# Altium integrated library Maxim Digital Potentiometers.IntLib: 1045 symbols (part 6 of 42)
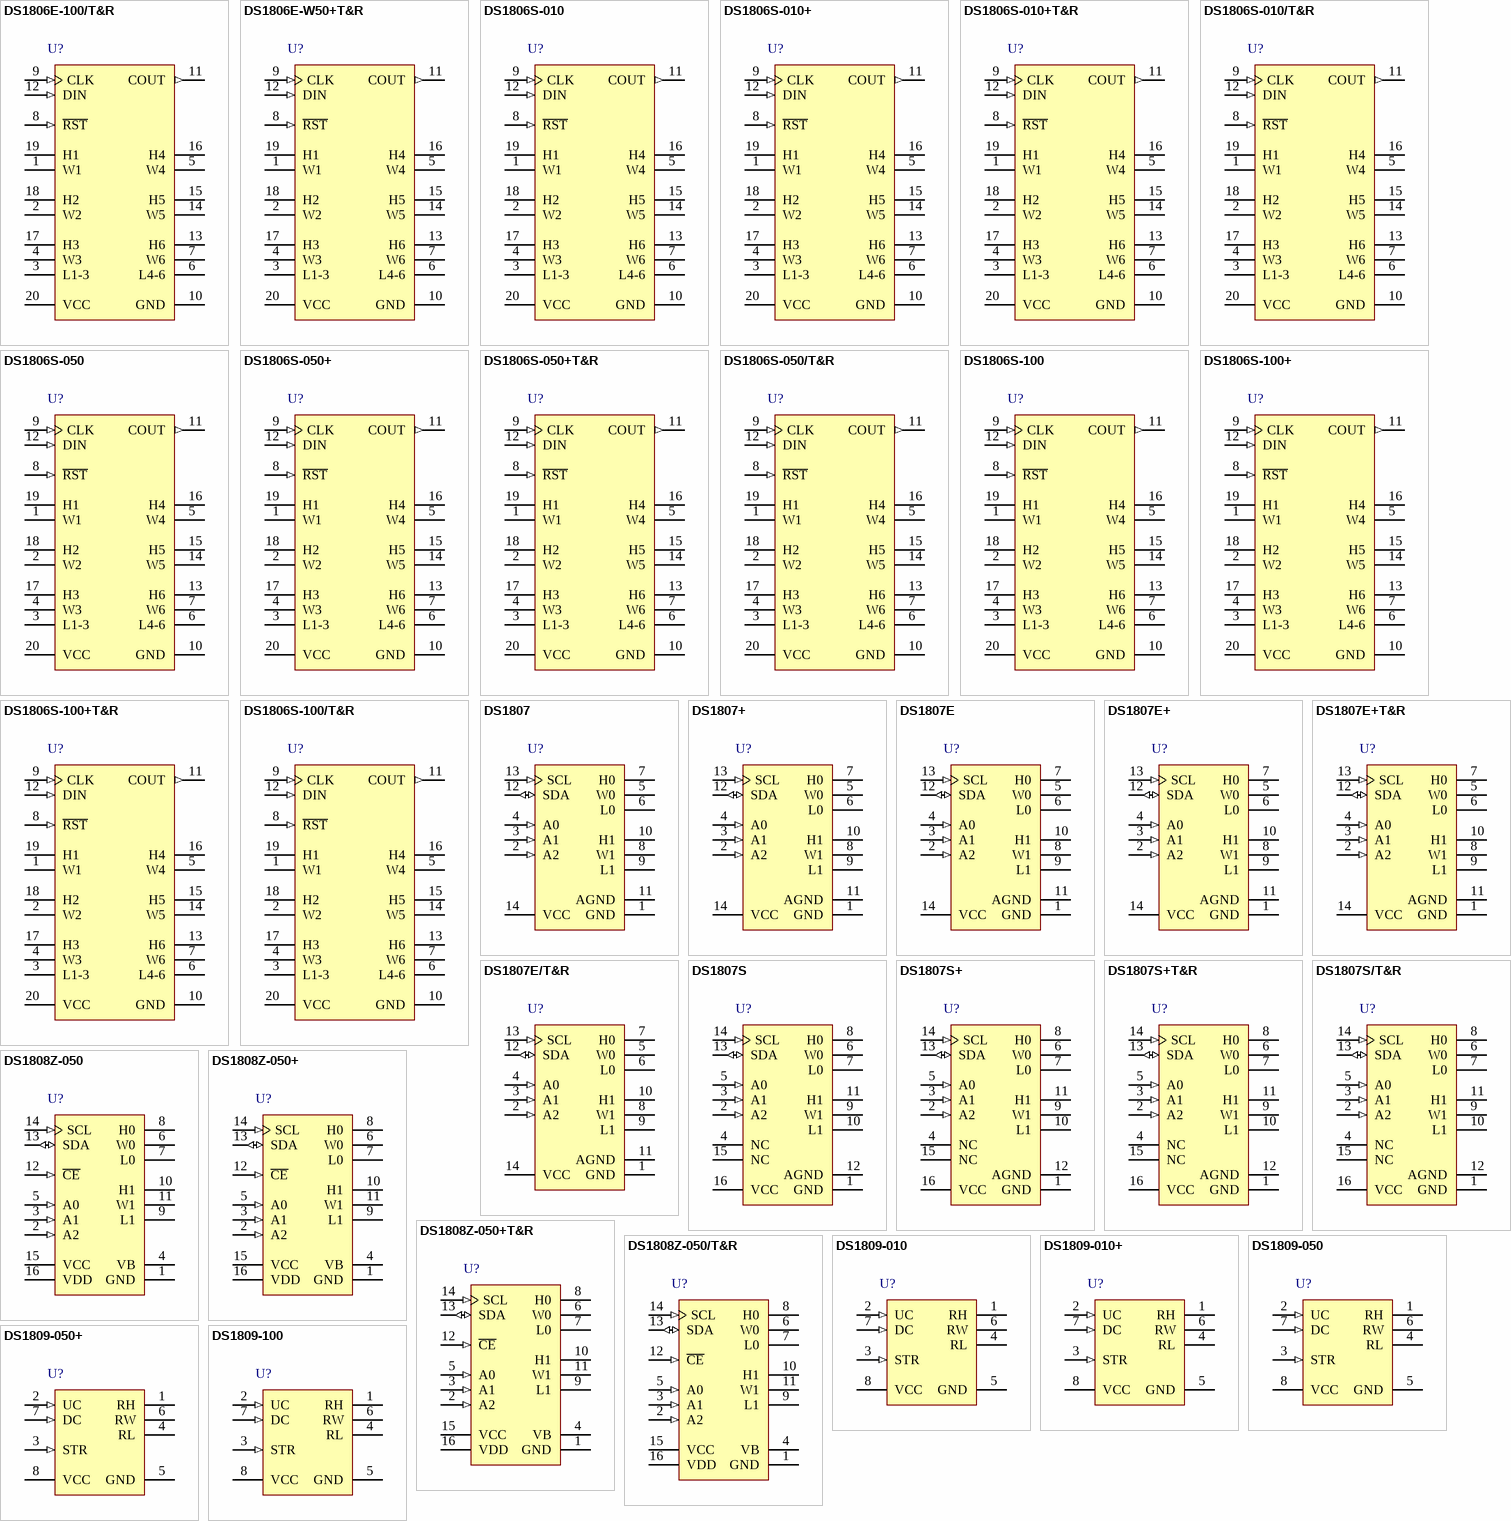
[diagram p34: symbols DS1806E-100/T&R to DS1809-100]

## DS1806S-100+
designator U?
Digital Sextet Potentiometer with 3-Wire Serial Control Interface, Volatile, Linear Taper, 64 Steps, -40 to 85 degC, 20-pin SOIC (W20+3), Pb-Free; PartNumber: DS1806S-100+; DatasheetVersion: Rev. 1; PackageVersion: Rev. F, 10/2012; PackageReference: W20+3; PackageDescription: 20-Pin Small-Outline IC, Wide (0.3in), Body 12.8 x 7.5 mm, Pitch 1.27 mm; Supplier 1: Digi-Key; Supplier Part Number 1: DS1806S-100+-ND; Supplier 2: Mouser; Supplier Part Number 2: 700-DS1806S-100; Control Interface: 3-Wire Serial; Mounting Technology: Surface Mount; Code_JEDEC: MS013; ComponentLink1Description: Manufacturer URL; ComponentLink1URL: http://www.maximintegrated.com/; ComponentLink2Description: Datasheet; ComponentLink2URL: http://datasheets.maximintegrated.com/en/ds/DS1806.pdf; ComponentLink3Description: Package Specification; ComponentLink3URL: http://pdfserv.maximintegrated.com/package_dwgs/21-0042.PDF
footprint MAXM-W20+3_N (SOIC, 20-Leads, Body 12.8x7.5mm, Pitch 1.27mm, IPC Medium Density)
footprint MAXM-W20+3_L (SOIC, 20-Leads, Body 12.8x7.5mm, Pitch 1.27mm, IPC High Density)
footprint MAXM-W20+3_M (SOIC, 20-Leads, Body 12.8x7.5mm, Pitch 1.27mm, IPC Low Density)
pins: 1 W1 "Wiper Terminal of Pot", 2 W2 "Wiper Terminal of Pot", 3 L1-3 "Low Terminal Pots 1 through 3", 4 W3 "Wiper Terminal of Pot", 5 W4 "Wiper Terminal of Pot", 6 L4-6 "Low Terminal Pots 4 through 6", 7 W6 "Wiper Terminal of Pot", 8 ~{RST} (in) "Serial Port Reset Input", 9 CLK (in) "Serial Port Clock Input", 10 GND (power) "Ground", 11 COUT (out) "Cascade Data Output", 12 DIN (in) "Serial Port Data Input", 13 H6 "High End terminal of Pot", 14 W5 "Wiper Terminal of Pot", 15 H5 "High End terminal of Pot", 16 H4 "High End terminal of Pot", 17 H3 "High End terminal of Pot", 18 H2 "High End terminal of Pot", 19 H1 "High End terminal of Pot", 20 VCC (power) "3V or 5V Supply"

## DS1806S-100+T&R
designator U?
Digital Sextet Potentiometer with 3-Wire Serial Control Interface, Volatile, Linear Taper, 64 Steps, -40 to 85 degC, 20-pin SOIC (W20+3), Pb-Free, Tape and Reel; PartNumber: DS1806S-100+T&R; DatasheetVersion: Rev. 1; PackageVersion: Rev. F, 10/2012; PackageReference: W20+3; PackageDescription: 20-Pin Small-Outline IC, Wide (0.3in), Body 12.8 x 7.5 mm, Pitch 1.27 mm; Supplier 1: Digi-Key; Supplier Part Number 1: DS1806S-100+T&R-ND; Supplier 2: Mouser; Supplier Part Number 2: 700-DS1806S-100T&R; Control Interface: 3-Wire Serial; Mounting Technology: Surface Mount; Code_JEDEC: MS013; ComponentLink1Description: Manufacturer URL; ComponentLink1URL: http://www.maximintegrated.com/; ComponentLink2Description: Datasheet; ComponentLink2URL: http://datasheets.maximintegrated.com/en/ds/DS1806.pdf; ComponentLink3Description: Package Specification; ComponentLink3URL: http://pdfserv.maximintegrated.com/package_dwgs/21-0042.PDF
footprint MAXM-W20+3_N (SOIC, 20-Leads, Body 12.8x7.5mm, Pitch 1.27mm, IPC Medium Density)
footprint MAXM-W20+3_L (SOIC, 20-Leads, Body 12.8x7.5mm, Pitch 1.27mm, IPC High Density)
footprint MAXM-W20+3_M (SOIC, 20-Leads, Body 12.8x7.5mm, Pitch 1.27mm, IPC Low Density)
pins: 1 W1 "Wiper Terminal of Pot", 2 W2 "Wiper Terminal of Pot", 3 L1-3 "Low Terminal Pots 1 through 3", 4 W3 "Wiper Terminal of Pot", 5 W4 "Wiper Terminal of Pot", 6 L4-6 "Low Terminal Pots 4 through 6", 7 W6 "Wiper Terminal of Pot", 8 ~{RST} (in) "Serial Port Reset Input", 9 CLK (in) "Serial Port Clock Input", 10 GND (power) "Ground", 11 COUT (out) "Cascade Data Output", 12 DIN (in) "Serial Port Data Input", 13 H6 "High End terminal of Pot", 14 W5 "Wiper Terminal of Pot", 15 H5 "High End terminal of Pot", 16 H4 "High End terminal of Pot", 17 H3 "High End terminal of Pot", 18 H2 "High End terminal of Pot", 19 H1 "High End terminal of Pot", 20 VCC (power) "3V or 5V Supply"

## DS1806S-100/T&R
designator U?
Digital Sextet Potentiometer with 3-Wire Serial Control Interface, Volatile, Linear Taper, 64 Steps, -40 to 85 degC, 20-pin SOIC (W20-3), Tape and Reel; PartNumber: DS1806S-100/T&R; DatasheetVersion: Rev. 1; PackageVersion: Rev. F, 10/2012; PackageReference: W20-3; PackageDescription: 20-Pin Small-Outline IC, Wide (0.3in), Body 12.8 x 7.5 mm, Pitch 1.27 mm; Supplier 1: Digi-Key; Supplier Part Number 1: DS1806S-100/T&R-ND; Supplier 2: Mouser; Supplier Part Number 2: N/A; Control Interface: 3-Wire Serial; Mounting Technology: Surface Mount; Code_JEDEC: MS013; ComponentLink1Description: Manufacturer URL; ComponentLink1URL: http://www.maximintegrated.com/; ComponentLink2Description: Datasheet; ComponentLink2URL: http://datasheets.maximintegrated.com/en/ds/DS1806.pdf; ComponentLink3Description: Package Specification; ComponentLink3URL: http://pdfserv.maximintegrated.com/package_dwgs/21-0042.PDF
footprint MAXM-W20-3_N (SOIC, 20-Leads, Body 12.8x7.5mm, Pitch 1.27mm, IPC Medium Density)
footprint MAXM-W20-3_L (SOIC, 20-Leads, Body 12.8x7.5mm, Pitch 1.27mm, IPC High Density)
footprint MAXM-W20-3_M (SOIC, 20-Leads, Body 12.8x7.5mm, Pitch 1.27mm, IPC Low Density)
pins: 1 W1 "Wiper Terminal of Pot", 2 W2 "Wiper Terminal of Pot", 3 L1-3 "Low Terminal Pots 1 through 3", 4 W3 "Wiper Terminal of Pot", 5 W4 "Wiper Terminal of Pot", 6 L4-6 "Low Terminal Pots 4 through 6", 7 W6 "Wiper Terminal of Pot", 8 ~{RST} (in) "Serial Port Reset Input", 9 CLK (in) "Serial Port Clock Input", 10 GND (power) "Ground", 11 COUT (out) "Cascade Data Output", 12 DIN (in) "Serial Port Data Input", 13 H6 "High End terminal of Pot", 14 W5 "Wiper Terminal of Pot", 15 H5 "High End terminal of Pot", 16 H4 "High End terminal of Pot", 17 H3 "High End terminal of Pot", 18 H2 "High End terminal of Pot", 19 H1 "High End terminal of Pot", 20 VCC (power) "3V or 5V Supply"

## DS1807
designator U?
Dual Audio Taper Potentiometer with 2-Wire Addressable Control Interface, Volatile, Log Taper, 64 Steps, -40 to 85 degC, 14-pin PDIP (P14-3); PartNumber: DS1807; DatasheetVersion: Rev. 1; PackageVersion: Rev. E, 04/2011; PackageReference: P14-3; PackageDescription: 14-Pin Plastic Dual-In-Line, Narrow (0.3in), Body 19.05 x 6.985 mm, Pitch 2.54 mm; Supplier 1: Digi-Key; Supplier Part Number 1: DS1807-ND; Supplier 2: Mouser; Supplier Part Number 2: N/A; Applications: Audio Control, Car Stereo ,Desktop Speakers ,Portable Audio; Control Interface: 2-Wire Addressable; Features: Mute, Ultra Low Power Consumption ,Zero-Crossing Detector; Mounting Technology: Through Hole; Code_JEDEC: MS001-XX; ComponentLink1Description: Manufacturer URL; ComponentLink1URL: http://www.maximintegrated.com/; ComponentLink2Description: Datasheet; ComponentLink2URL: http://datasheets.maximintegrated.com/en/ds/DS1807.pdf; ComponentLink3Description: Package Specification; ComponentLink3URL: http://pdfserv.maximintegrated.com/package_dwgs/21-0043.PDF
footprint MAXM-P14-3 (DIP, 14-Leads, Body 19.05x6.985mm, Pitch 2.54mm)
pins: 1 GND (power) "Ground", 2 A2 (in) "Chip Select Inputs", 3 A1 (in) "Chip Select Inputs", 4 A0 (in) "Chip Select Inputs", 5 W0 "Wiper Terminal of Resistor", 6 L0 "Low End of Resistor", 7 H0 "High End of Resistor", 8 W1 "Wiper Terminal of Resistor", 9 L1 "Low End of Resistor", 10 H1 "High End of Resistor", 11 AGND (power) "Analog Ground", 12 SDA (io) "Serial Data I/O", 13 SCL (in) "Serial Clock Input", 14 VCC (power) "3V/5V Power Supply Input"

## DS1807+
designator U?
Dual Audio Taper Potentiometer with 2-Wire Addressable Control Interface, Volatile, Log Taper, 64 Steps, -40 to 85 degC, 14-pin PDIP (P14+3), Pb-Free; PartNumber: DS1807+; DatasheetVersion: Rev. 1; PackageVersion: Rev. E, 04/2011; PackageReference: P14+3; PackageDescription: 14-Pin Plastic Dual-In-Line, Narrow (0.3in) (P14+3), Body 19.05 x 6.985 mm, Pitch 2.54 mm; Supplier 1: Digi-Key; Supplier Part Number 1: DS1807+-ND; Supplier 2: Mouser; Supplier Part Number 2: 700-DS1807; Applications: Audio Control, Car Stereo ,Desktop Speakers ,Portable Audio; Control Interface: 2-Wire Addressable; Features: Mute, Ultra Low Power Consumption ,Zero-Crossing Detector; Mounting Technology: Through Hole; Code_JEDEC: MS001-XX; ComponentLink1Description: Manufacturer URL; ComponentLink1URL: http://www.maximintegrated.com/; ComponentLink2Description: Datasheet; ComponentLink2URL: http://datasheets.maximintegrated.com/en/ds/DS1807.pdf; ComponentLink3Description: Package Specification; ComponentLink3URL: http://pdfserv.maximintegrated.com/package_dwgs/21-0043.PDF
footprint MAXM-P14+3 (DIP, 14-Leads, Body 19.05x6.985mm, Pitch 2.54mm)
pins: 1 GND (power) "Ground", 2 A2 (in) "Chip Select Inputs", 3 A1 (in) "Chip Select Inputs", 4 A0 (in) "Chip Select Inputs", 5 W0 "Wiper Terminal of Resistor", 6 L0 "Low End of Resistor", 7 H0 "High End of Resistor", 8 W1 "Wiper Terminal of Resistor", 9 L1 "Low End of Resistor", 10 H1 "High End of Resistor", 11 AGND (power) "Analog Ground", 12 SDA (io) "Serial Data I/O", 13 SCL (in) "Serial Clock Input", 14 VCC (power) "3V/5V Power Supply Input"

## DS1807E
designator U?
Dual Audio Taper Potentiometer with 2-Wire Addressable Control Interface, Volatile, Log Taper, 64 Steps, -40 to 85 degC, 14-pin TSSOP (U14-1); PartNumber: DS1807E; DatasheetVersion: Rev. 1; PackageVersion: Rev. L, 07/2010; PackageReference: U14-1; PackageDescription: 14-Pin Thin Shrink Small-Outline Package (U14-1), Body 5 x 4.4 mm, Pitch 0.65 mm; Supplier 1: Digi-Key; Supplier Part Number 1: DS1807E-ND; Supplier 2: Mouser; Supplier Part Number 2: N/A; Applications: Audio Control, Car Stereo ,Desktop Speakers ,Portable Audio; Control Interface: 2-Wire Addressable; Features: Mute, Ultra Low Power Consumption ,Zero-Crossing Detector; Mounting Technology: Surface Mount; Code_JEDEC: MO-153; ComponentLink1Description: Manufacturer URL; ComponentLink1URL: http://www.maximintegrated.com/; ComponentLink2Description: Datasheet; ComponentLink2URL: http://datasheets.maximintegrated.com/en/ds/DS1807.pdf; ComponentLink3Description: Package Specification; ComponentLink3URL: http://pdfserv.maximintegrated.com/package_dwgs/21-0066.PDF
footprint MAXM-U14-1_N (SOP, 14-Leads, Body 5x4.4mm, Pitch 0.65mm, IPC Medium Density)
footprint MAXM-U14-1_L (SOP, 14-Leads, Body 5x4.4mm, Pitch 0.65mm, IPC High Density)
footprint MAXM-U14-1_M (SOP, 14-Leads, Body 5x4.4mm, Pitch 0.65mm, IPC Low Density)
pins: 1 GND (power) "Ground", 2 A2 (in) "Chip Select Inputs", 3 A1 (in) "Chip Select Inputs", 4 A0 (in) "Chip Select Inputs", 5 W0 "Wiper Terminal of Resistor", 6 L0 "Low End of Resistor", 7 H0 "High End of Resistor", 8 W1 "Wiper Terminal of Resistor", 9 L1 "Low End of Resistor", 10 H1 "High End of Resistor", 11 AGND (power) "Analog Ground", 12 SDA (io) "Serial Data I/O", 13 SCL (in) "Serial Clock Input", 14 VCC (power) "3V/5V Power Supply Input"

## DS1807E+
designator U?
Dual Audio Taper Potentiometer with 2-Wire Addressable Control Interface, Volatile, Log Taper, 64 Steps, -40 to 85 degC, 14-pin TSSOP (U14+1), Pb-Free; PartNumber: DS1807E+; DatasheetVersion: Rev. 1; PackageVersion: Rev. L, 07/2010; PackageReference: U14+1; PackageDescription: 14-Pin Thin Shrink Small-Outline Package (U14+1), Body 5 x 4.4 mm, Pitch 0.65 mm; Supplier 1: Digi-Key; Supplier Part Number 1: DS1807E+-ND; Supplier 2: Farnell; Supplier Part Number 2: 2113184; Supplier 3: Newark; Supplier Part Number 3: 95T8621; Supplier 4: Newark; Supplier Part Number 4: 03K9119; Supplier 5: Mouser; Supplier Part Number 5: 700-DS1807E; Applications: Audio Control, Car Stereo ,Desktop Speakers ,Portable Audio; Control Interface: 2-Wire Addressable; Features: Mute, Ultra Low Power Consumption ,Zero-Crossing Detector; Mounting Technology: Surface Mount; Code_JEDEC: MO-153; ComponentLink1Description: Manufacturer URL; ComponentLink1URL: http://www.maximintegrated.com/; ComponentLink2Description: Datasheet; ComponentLink2URL: http://datasheets.maximintegrated.com/en/ds/DS1807.pdf; ComponentLink3Description: Package Specification; ComponentLink3URL: http://pdfserv.maximintegrated.com/package_dwgs/21-0066.PDF
footprint MAXM-U14+1_N (SOP, 14-Leads, Body 5x4.4mm, Pitch 0.65mm, IPC Medium Density)
footprint MAXM-U14+1_L (SOP, 14-Leads, Body 5x4.4mm, Pitch 0.65mm, IPC High Density)
footprint MAXM-U14+1_M (SOP, 14-Leads, Body 5x4.4mm, Pitch 0.65mm, IPC Low Density)
pins: 1 GND (power) "Ground", 2 A2 (in) "Chip Select Inputs", 3 A1 (in) "Chip Select Inputs", 4 A0 (in) "Chip Select Inputs", 5 W0 "Wiper Terminal of Resistor", 6 L0 "Low End of Resistor", 7 H0 "High End of Resistor", 8 W1 "Wiper Terminal of Resistor", 9 L1 "Low End of Resistor", 10 H1 "High End of Resistor", 11 AGND (power) "Analog Ground", 12 SDA (io) "Serial Data I/O", 13 SCL (in) "Serial Clock Input", 14 VCC (power) "3V/5V Power Supply Input"

## DS1807E+T&R
designator U?
Dual Audio Taper Potentiometer with 2-Wire Addressable Control Interface, Volatile, Log Taper, 64 Steps, -40 to 85 degC, 14-pin TSSOP (U14+1), Pb-Free, Tape and Reel; PartNumber: DS1807E+T&R; DatasheetVersion: Rev. 1; PackageVersion: Rev. L, 07/2010; PackageReference: U14+1; PackageDescription: 14-Pin Thin Shrink Small-Outline Package (U14+1), Body 5 x 4.4 mm, Pitch 0.65 mm; Supplier 1: Digi-Key; Supplier Part Number 1: DS1807E+T&R-ND; Supplier 2: Mouser; Supplier Part Number 2: 700-DS1807ET&R; Applications: Audio Control, Car Stereo ,Desktop Speakers ,Portable Audio; Control Interface: 2-Wire Addressable; Features: Mute, Ultra Low Power Consumption ,Zero-Crossing Detector; Mounting Technology: Surface Mount; Code_JEDEC: MO-153; ComponentLink1Description: Manufacturer URL; ComponentLink1URL: http://www.maximintegrated.com/; ComponentLink2Description: Datasheet; ComponentLink2URL: http://datasheets.maximintegrated.com/en/ds/DS1807.pdf; ComponentLink3Description: Package Specification; ComponentLink3URL: http://pdfserv.maximintegrated.com/package_dwgs/21-0066.PDF
footprint MAXM-U14+1_N (SOP, 14-Leads, Body 5x4.4mm, Pitch 0.65mm, IPC Medium Density)
footprint MAXM-U14+1_L (SOP, 14-Leads, Body 5x4.4mm, Pitch 0.65mm, IPC High Density)
footprint MAXM-U14+1_M (SOP, 14-Leads, Body 5x4.4mm, Pitch 0.65mm, IPC Low Density)
pins: 1 GND (power) "Ground", 2 A2 (in) "Chip Select Inputs", 3 A1 (in) "Chip Select Inputs", 4 A0 (in) "Chip Select Inputs", 5 W0 "Wiper Terminal of Resistor", 6 L0 "Low End of Resistor", 7 H0 "High End of Resistor", 8 W1 "Wiper Terminal of Resistor", 9 L1 "Low End of Resistor", 10 H1 "High End of Resistor", 11 AGND (power) "Analog Ground", 12 SDA (io) "Serial Data I/O", 13 SCL (in) "Serial Clock Input", 14 VCC (power) "3V/5V Power Supply Input"

## DS1807E/T&R
designator U?
Dual Audio Taper Potentiometer with 2-Wire Addressable Control Interface, Volatile, Log Taper, 64 Steps, -40 to 85 degC, 14-pin TSSOP (U14-1), Tape and Reel; PartNumber: DS1807E/T&R; DatasheetVersion: Rev. 1; PackageVersion: Rev. L, 07/2010; PackageReference: U14-1; PackageDescription: 14-Pin Thin Shrink Small-Outline Package (U14-1), Body 5 x 4.4 mm, Pitch 0.65 mm; Supplier 1: Mouser; Supplier Part Number 1: N/A; Applications: Audio Control, Car Stereo ,Desktop Speakers ,Portable Audio; Control Interface: 2-Wire Addressable; Features: Mute, Ultra Low Power Consumption ,Zero-Crossing Detector; Mounting Technology: Surface Mount; Code_JEDEC: MO-153; ComponentLink1Description: Manufacturer URL; ComponentLink1URL: http://www.maximintegrated.com/; ComponentLink2Description: Datasheet; ComponentLink2URL: http://datasheets.maximintegrated.com/en/ds/DS1807.pdf; ComponentLink3Description: Package Specification; ComponentLink3URL: http://pdfserv.maximintegrated.com/package_dwgs/21-0066.PDF
footprint MAXM-U14-1_N (SOP, 14-Leads, Body 5x4.4mm, Pitch 0.65mm, IPC Medium Density)
footprint MAXM-U14-1_L (SOP, 14-Leads, Body 5x4.4mm, Pitch 0.65mm, IPC High Density)
footprint MAXM-U14-1_M (SOP, 14-Leads, Body 5x4.4mm, Pitch 0.65mm, IPC Low Density)
pins: 1 GND (power) "Ground", 2 A2 (in) "Chip Select Inputs", 3 A1 (in) "Chip Select Inputs", 4 A0 (in) "Chip Select Inputs", 5 W0 "Wiper Terminal of Resistor", 6 L0 "Low End of Resistor", 7 H0 "High End of Resistor", 8 W1 "Wiper Terminal of Resistor", 9 L1 "Low End of Resistor", 10 H1 "High End of Resistor", 11 AGND (power) "Analog Ground", 12 SDA (io) "Serial Data I/O", 13 SCL (in) "Serial Clock Input", 14 VCC (power) "3V/5V Power Supply Input"

## DS1807S
designator U?
Dual Audio Taper Potentiometer with 2-Wire Addressable Control Interface, Volatile, Log Taper, 64 Steps, -40 to 85 degC, 16-pin SOIC (W16-1); PartNumber: DS1807S; DatasheetVersion: Rev. 1; PackageVersion: Rev. F, 10/2012; PackageReference: W16-1; PackageDescription: 16-Pin Small-Outline IC, Wide (0.3in) (W16-1), Body 10.3 x 7.5 mm, Pitch 1.27 mm; Supplier 1: Digi-Key; Supplier Part Number 1: DS1807S-ND; Supplier 2: Mouser; Supplier Part Number 2: N/A; Applications: Audio Control, Car Stereo ,Desktop Speakers ,Portable Audio; Control Interface: 2-Wire Addressable; Features: Mute, Ultra Low Power Consumption ,Zero-Crossing Detector; Mounting Technology: Surface Mount; Code_JEDEC: MS013; ComponentLink1Description: Manufacturer URL; ComponentLink1URL: http://www.maximintegrated.com/; ComponentLink2Description: Datasheet; ComponentLink2URL: http://datasheets.maximintegrated.com/en/ds/DS1807.pdf; ComponentLink3Description: Package Specification; ComponentLink3URL: http://pdfserv.maximintegrated.com/package_dwgs/21-0042.PDF
footprint MAXM-W16-1_N (SOIC, 16-Leads, Body 10.3x7.5mm, Pitch 1.27mm, IPC Medium Density)
footprint MAXM-W16-1_L (SOIC, 16-Leads, Body 10.3x7.5mm, Pitch 1.27mm, IPC High Density)
footprint MAXM-W16-1_M (SOIC, 16-Leads, Body 10.3x7.5mm, Pitch 1.27mm, IPC Low Density)
pins: 1 GND (power) "Ground", 2 A2 (in) "Chip Select Inputs", 3 A1 (in) "Chip Select Inputs", 4 NC "No connection", 5 A0 (in) "Chip Select Inputs", 6 W0 "Wiper Terminal of Resistor", 7 L0 "Low End of Resistor", 8 H0 "High End of Resistor", 9 W1 "Wiper Terminal of Resistor", 10 L1 "Low End of Resistor", 11 H1 "High End of Resistor", 12 AGND (power) "Analog Ground", 13 SDA (io) "Serial Data I/O", 14 SCL (in) "Serial Clock Input", 15 NC "No connection", 16 VCC (power) "3V/5V Power Supply Input"

## DS1807S+
designator U?
Dual Audio Taper Potentiometer with 2-Wire Addressable Control Interface, Volatile, Log Taper, 64 Steps, -40 to 85 degC, 16-pin SOIC (W16+1), Pb-Free; PartNumber: DS1807S+; DatasheetVersion: Rev. 1; PackageVersion: Rev. F, 10/2012; PackageReference: W16+1; PackageDescription: 16-Pin Small-Outline IC, Wide (0.3in) (W16+1), Body 10.3 x 7.5 mm, Pitch 1.27 mm; Supplier 1: Digi-Key; Supplier Part Number 1: DS1807S+-ND; Supplier 2: Mouser; Supplier Part Number 2: 700-DS1807S; Applications: Audio Control, Car Stereo ,Desktop Speakers ,Portable Audio; Control Interface: 2-Wire Addressable; Features: Mute, Ultra Low Power Consumption ,Zero-Crossing Detector; Mounting Technology: Surface Mount; Code_JEDEC: MS013; ComponentLink1Description: Manufacturer URL; ComponentLink1URL: http://www.maximintegrated.com/; ComponentLink2Description: Datasheet; ComponentLink2URL: http://datasheets.maximintegrated.com/en/ds/DS1807.pdf; ComponentLink3Description: Package Specification; ComponentLink3URL: http://pdfserv.maximintegrated.com/package_dwgs/21-0042.PDF
footprint MAXM-W16+1_N (SOIC, 16-Leads, Body 10.3x7.5mm, Pitch 1.27mm, IPC Medium Density)
footprint MAXM-W16+1_L (SOIC, 16-Leads, Body 10.3x7.5mm, Pitch 1.27mm, IPC High Density)
footprint MAXM-W16+1_M (SOIC, 16-Leads, Body 10.3x7.5mm, Pitch 1.27mm, IPC Low Density)
pins: 1 GND (power) "Ground", 2 A2 (in) "Chip Select Inputs", 3 A1 (in) "Chip Select Inputs", 4 NC "No connection", 5 A0 (in) "Chip Select Inputs", 6 W0 "Wiper Terminal of Resistor", 7 L0 "Low End of Resistor", 8 H0 "High End of Resistor", 9 W1 "Wiper Terminal of Resistor", 10 L1 "Low End of Resistor", 11 H1 "High End of Resistor", 12 AGND (power) "Analog Ground", 13 SDA (io) "Serial Data I/O", 14 SCL (in) "Serial Clock Input", 15 NC "No connection", 16 VCC (power) "3V/5V Power Supply Input"

## DS1807S+T&R
designator U?
Dual Audio Taper Potentiometer with 2-Wire Addressable Control Interface, Volatile, Log Taper, 64 Steps, -40 to 85 degC, 16-pin SOIC (W16+1), Pb-Free, Tape and Reel; PartNumber: DS1807S+T&R; DatasheetVersion: Rev. 1; PackageVersion: Rev. F, 10/2012; PackageReference: W16+1; PackageDescription: 16-Pin Small-Outline IC, Wide (0.3in) (W16+1), Body 10.3 x 7.5 mm, Pitch 1.27 mm; Supplier 1: Digi-Key; Supplier Part Number 1: DS1807S+T&R-ND; Supplier 2: Mouser; Supplier Part Number 2: 700-DS1807ST&R; Applications: Audio Control, Car Stereo ,Desktop Speakers ,Portable Audio; Control Interface: 2-Wire Addressable; Features: Mute, Ultra Low Power Consumption ,Zero-Crossing Detector; Mounting Technology: Surface Mount; Code_JEDEC: MS013; ComponentLink1Description: Manufacturer URL; ComponentLink1URL: http://www.maximintegrated.com/; ComponentLink2Description: Datasheet; ComponentLink2URL: http://datasheets.maximintegrated.com/en/ds/DS1807.pdf; ComponentLink3Description: Package Specification; ComponentLink3URL: http://pdfserv.maximintegrated.com/package_dwgs/21-0042.PDF
footprint MAXM-W16+1_N (SOIC, 16-Leads, Body 10.3x7.5mm, Pitch 1.27mm, IPC Medium Density)
footprint MAXM-W16+1_L (SOIC, 16-Leads, Body 10.3x7.5mm, Pitch 1.27mm, IPC High Density)
footprint MAXM-W16+1_M (SOIC, 16-Leads, Body 10.3x7.5mm, Pitch 1.27mm, IPC Low Density)
pins: 1 GND (power) "Ground", 2 A2 (in) "Chip Select Inputs", 3 A1 (in) "Chip Select Inputs", 4 NC "No connection", 5 A0 (in) "Chip Select Inputs", 6 W0 "Wiper Terminal of Resistor", 7 L0 "Low End of Resistor", 8 H0 "High End of Resistor", 9 W1 "Wiper Terminal of Resistor", 10 L1 "Low End of Resistor", 11 H1 "High End of Resistor", 12 AGND (power) "Analog Ground", 13 SDA (io) "Serial Data I/O", 14 SCL (in) "Serial Clock Input", 15 NC "No connection", 16 VCC (power) "3V/5V Power Supply Input"

## DS1807S/T&R
designator U?
Dual Audio Taper Potentiometer with 2-Wire Addressable Control Interface, Volatile, Log Taper, 64 Steps, -40 to 85 degC, 16-pin SOIC (W16-1), Tape and Reel; PartNumber: DS1807S/T&R; DatasheetVersion: Rev. 1; PackageVersion: Rev. F, 10/2012; PackageReference: W16-1; PackageDescription: 16-Pin Small-Outline IC, Wide (0.3in) (W16-1), Body 10.3 x 7.5 mm, Pitch 1.27 mm; Supplier 1: Digi-Key; Supplier Part Number 1: DS1807S/T&R-ND; Supplier 2: Mouser; Supplier Part Number 2: N/A; Applications: Audio Control, Car Stereo ,Desktop Speakers ,Portable Audio; Control Interface: 2-Wire Addressable; Features: Mute, Ultra Low Power Consumption ,Zero-Crossing Detector; Mounting Technology: Surface Mount; Code_JEDEC: MS013; ComponentLink1Description: Manufacturer URL; ComponentLink1URL: http://www.maximintegrated.com/; ComponentLink2Description: Datasheet; ComponentLink2URL: http://datasheets.maximintegrated.com/en/ds/DS1807.pdf; ComponentLink3Description: Package Specification; ComponentLink3URL: http://pdfserv.maximintegrated.com/package_dwgs/21-0042.PDF
footprint MAXM-W16-1_N (SOIC, 16-Leads, Body 10.3x7.5mm, Pitch 1.27mm, IPC Medium Density)
footprint MAXM-W16-1_L (SOIC, 16-Leads, Body 10.3x7.5mm, Pitch 1.27mm, IPC High Density)
footprint MAXM-W16-1_M (SOIC, 16-Leads, Body 10.3x7.5mm, Pitch 1.27mm, IPC Low Density)
pins: 1 GND (power) "Ground", 2 A2 (in) "Chip Select Inputs", 3 A1 (in) "Chip Select Inputs", 4 NC "No connection", 5 A0 (in) "Chip Select Inputs", 6 W0 "Wiper Terminal of Resistor", 7 L0 "Low End of Resistor", 8 H0 "High End of Resistor", 9 W1 "Wiper Terminal of Resistor", 10 L1 "Low End of Resistor", 11 H1 "High End of Resistor", 12 AGND (power) "Analog Ground", 13 SDA (io) "Serial Data I/O", 14 SCL (in) "Serial Clock Input", 15 NC "No connection", 16 VCC (power) "3V/5V Power Supply Input"

## DS1808Z-050
designator U?
Dual High Voltage Bipolar Audio Potentiometer with 2-Wire Addressable Control Interface, Volatile, Log Taper, 32 Steps, -40 to 85 degC, 16-pin SOIC (S16-5); PartNumber: DS1808Z-050; DatasheetVersion: Rev. 1; PackageVersion: Rev. D, 10/2012; PackageReference: S16-5; PackageDescription: 16-Pin Small-Outline IC, Narrow (0.15in) (S16-5), Body 9.9 x 3.9 mm, Pitch 1.27 mm; Supplier 1: Digi-Key; Supplier Part Number 1: DS1808Z-050-ND; Supplier 2: Mouser; Supplier Part Number 2: N/A; Control Interface: 2-Wire Addressable; Features: +/-12V Audio Taper, High Voltage Bipolar Compatibility ,Mute; Mounting Technology: Surface Mount; Code_JEDEC: MS012; ComponentLink1Description: Manufacturer URL; ComponentLink1URL: http://www.maximintegrated.com/; ComponentLink2Description: Datasheet; ComponentLink2URL: http://datasheets.maximintegrated.com/en/ds/DS1808.pdf; ComponentLink3Description: Package Specification; ComponentLink3URL: http://pdfserv.maximintegrated.com/package_dwgs/21-0041.PDF
footprint MAXM-S16-5_N (SOIC, 16-Leads, Body 9.9x3.9mm, Pitch 1.27mm, IPC Medium Density)
footprint MAXM-S16-5_L (SOIC, 16-Leads, Body 9.9x3.9mm, Pitch 1.27mm, IPC High Density)
footprint MAXM-S16-5_M (SOIC, 16-Leads, Body 9.9x3.9mm, Pitch 1.27mm, IPC Low Density)
pins: 1 GND (power) "Ground", 2 A2 (in) "Address Pin", 3 A1 (in) "Address Pin", 4 VB (power) "-12V Supply (substrate bias)", 5 A0 (in) "Address Pin", 6 W0 "Wiper Terminals", 7 L0 "Low-end Terminals", 8 H0 "High-end Terminals", 9 L1 "Low-end Terminals", 10 H1 "High-end Terminals", 11 W1 "Wiper Terminals", 12 ~{CE} (in) "2-Wire Interface Enable", 13 SDA (io) "2-Wire Serial Data Input/Output", 14 SCL (in) "2-Wire Clock Input", 15 VCC (power) "+12V Supply", 16 VDD (power) "5V Digital Supply"

## DS1808Z-050+
designator U?
Dual High Voltage Bipolar Audio Potentiometer with 2-Wire Addressable Control Interface, Volatile, Log Taper, 32 Steps, -40 to 85 degC, 16-pin SOIC (S16+5), Pb-Free; PartNumber: DS1808Z-050+; DatasheetVersion: Rev. 1; PackageVersion: Rev. D, 10/2012; PackageReference: S16+5; PackageDescription: 16-Pin Small-Outline IC, Narrow (0.15in) (S16+5), Body 9.9 x 3.9 mm, Pitch 1.27 mm; Supplier 1: Digi-Key; Supplier Part Number 1: DS1808Z-050+-ND; Supplier 2: Farnell; Supplier Part Number 2: 1379825; Supplier 3: Mouser; Supplier Part Number 3: 700-DS1808Z-050; Control Interface: 2-Wire Addressable; Features: +/-12V Audio Taper, High Voltage Bipolar Compatibility ,Mute; Mounting Technology: Surface Mount; Code_JEDEC: MS012; ComponentLink1Description: Manufacturer URL; ComponentLink1URL: http://www.maximintegrated.com/; ComponentLink2Description: Datasheet; ComponentLink2URL: http://datasheets.maximintegrated.com/en/ds/DS1808.pdf; ComponentLink3Description: Package Specification; ComponentLink3URL: http://pdfserv.maximintegrated.com/package_dwgs/21-0041.PDF
footprint MAXM-S16+5_N (SOIC, 16-Leads, Body 9.9x3.9mm, Pitch 1.27mm, IPC Medium Density)
footprint MAXM-S16+5_L (SOIC, 16-Leads, Body 9.9x3.9mm, Pitch 1.27mm, IPC High Density)
footprint MAXM-S16+5_M (SOIC, 16-Leads, Body 9.9x3.9mm, Pitch 1.27mm, IPC Low Density)
pins: 1 GND (power) "Ground", 2 A2 (in) "Address Pin", 3 A1 (in) "Address Pin", 4 VB (power) "-12V Supply (substrate bias)", 5 A0 (in) "Address Pin", 6 W0 "Wiper Terminals", 7 L0 "Low-end Terminals", 8 H0 "High-end Terminals", 9 L1 "Low-end Terminals", 10 H1 "High-end Terminals", 11 W1 "Wiper Terminals", 12 ~{CE} (in) "2-Wire Interface Enable", 13 SDA (io) "2-Wire Serial Data Input/Output", 14 SCL (in) "2-Wire Clock Input", 15 VCC (power) "+12V Supply", 16 VDD (power) "5V Digital Supply"

## DS1808Z-050+T&R
designator U?
Dual High Voltage Bipolar Audio Potentiometer with 2-Wire Addressable Control Interface, Volatile, Log Taper, 32 Steps, -40 to 85 degC, 16-pin SOIC (S16+5), Pb-Free, Tape and Reel; PartNumber: DS1808Z-050+T&R; DatasheetVersion: Rev. 1; PackageVersion: Rev. D, 10/2012; PackageReference: S16+5; PackageDescription: 16-Pin Small-Outline IC, Narrow (0.15in) (S16+5), Body 9.9 x 3.9 mm, Pitch 1.27 mm; Supplier 1: Digi-Key; Supplier Part Number 1: DS1808Z-050+T&R-ND; Supplier 2: Mouser; Supplier Part Number 2: 700-DS1808Z-050T&R; Control Interface: 2-Wire Addressable; Features: +/-12V Audio Taper, High Voltage Bipolar Compatibility ,Mute; Mounting Technology: Surface Mount; Code_JEDEC: MS012; ComponentLink1Description: Manufacturer URL; ComponentLink1URL: http://www.maximintegrated.com/; ComponentLink2Description: Datasheet; ComponentLink2URL: http://datasheets.maximintegrated.com/en/ds/DS1808.pdf; ComponentLink3Description: Package Specification; ComponentLink3URL: http://pdfserv.maximintegrated.com/package_dwgs/21-0041.PDF
footprint MAXM-S16+5_N (SOIC, 16-Leads, Body 9.9x3.9mm, Pitch 1.27mm, IPC Medium Density)
footprint MAXM-S16+5_L (SOIC, 16-Leads, Body 9.9x3.9mm, Pitch 1.27mm, IPC High Density)
footprint MAXM-S16+5_M (SOIC, 16-Leads, Body 9.9x3.9mm, Pitch 1.27mm, IPC Low Density)
pins: 1 GND (power) "Ground", 2 A2 (in) "Address Pin", 3 A1 (in) "Address Pin", 4 VB (power) "-12V Supply (substrate bias)", 5 A0 (in) "Address Pin", 6 W0 "Wiper Terminals", 7 L0 "Low-end Terminals", 8 H0 "High-end Terminals", 9 L1 "Low-end Terminals", 10 H1 "High-end Terminals", 11 W1 "Wiper Terminals", 12 ~{CE} (in) "2-Wire Interface Enable", 13 SDA (io) "2-Wire Serial Data Input/Output", 14 SCL (in) "2-Wire Clock Input", 15 VCC (power) "+12V Supply", 16 VDD (power) "5V Digital Supply"

## DS1808Z-050/T&R
designator U?
Dual High Voltage Bipolar Audio Potentiometer with 2-Wire Addressable Control Interface, Volatile, Log Taper, 32 Steps, -40 to 85 degC, 16-pin SOIC (S16-5), Tape and Reel; PartNumber: DS1808Z-050/T&R; DatasheetVersion: Rev. 1; PackageVersion: Rev. D, 10/2012; PackageReference: S16-5; PackageDescription: 16-Pin Small-Outline IC, Narrow (0.15in) (S16-5), Body 9.9 x 3.9 mm, Pitch 1.27 mm; Supplier 1: Digi-Key; Supplier Part Number 1: DS1808Z-050/T&R-ND; Supplier 2: Mouser; Supplier Part Number 2: N/A; Control Interface: 2-Wire Addressable; Features: +/-12V Audio Taper, High Voltage Bipolar Compatibility ,Mute; Mounting Technology: Surface Mount; Code_JEDEC: MS012; ComponentLink1Description: Manufacturer URL; ComponentLink1URL: http://www.maximintegrated.com/; ComponentLink2Description: Datasheet; ComponentLink2URL: http://datasheets.maximintegrated.com/en/ds/DS1808.pdf; ComponentLink3Description: Package Specification; ComponentLink3URL: http://pdfserv.maximintegrated.com/package_dwgs/21-0041.PDF
footprint MAXM-S16-5_N (SOIC, 16-Leads, Body 9.9x3.9mm, Pitch 1.27mm, IPC Medium Density)
footprint MAXM-S16-5_L (SOIC, 16-Leads, Body 9.9x3.9mm, Pitch 1.27mm, IPC High Density)
footprint MAXM-S16-5_M (SOIC, 16-Leads, Body 9.9x3.9mm, Pitch 1.27mm, IPC Low Density)
pins: 1 GND (power) "Ground", 2 A2 (in) "Address Pin", 3 A1 (in) "Address Pin", 4 VB (power) "-12V Supply (substrate bias)", 5 A0 (in) "Address Pin", 6 W0 "Wiper Terminals", 7 L0 "Low-end Terminals", 8 H0 "High-end Terminals", 9 L1 "Low-end Terminals", 10 H1 "High-end Terminals", 11 W1 "Wiper Terminals", 12 ~{CE} (in) "2-Wire Interface Enable", 13 SDA (io) "2-Wire Serial Data Input/Output", 14 SCL (in) "2-Wire Clock Input", 15 VCC (power) "+12V Supply", 16 VDD (power) "5V Digital Supply"

## DS1809-010
designator U?
Dallastat with Contact-Closure Control Interface, Non-Volatile, Linear Taper, 64 Steps, -40 to 85 degC, 8-pin PDIP (P8-1); PartNumber: DS1809-010; DatasheetVersion: Rev. 1; PackageVersion: Rev. E, 04/2011; PackageReference: P8-1; PackageDescription: 8-Pin Plastic Dual-In-Line, Narrow (0.3in) (P8-1), Body 9.375 x 6.985 mm, Pitch 2.54 mm; Supplier 1: Digi-Key; Supplier Part Number 1: DS1809-010-ND; Supplier 2: Mouser; Supplier Part Number 2: N/A; Control Interface: Contact-Closure; Features: EEPROM Wiper Memory; Mounting Technology: Through Hole; Code_JEDEC: MS001-XX; ComponentLink1Description: Manufacturer URL; ComponentLink1URL: http://www.maximintegrated.com/; ComponentLink2Description: Datasheet; ComponentLink2URL: http://datasheets.maximintegrated.com/en/ds/DS1809.pdf; ComponentLink3Description: Package Specification; ComponentLink3URL: http://pdfserv.maximintegrated.com/package_dwgs/21-0043.PDF
footprint MAXM-P8-1 (DIP, 8-Leads, Body 9.375x6.985mm, Pitch 2.54mm)
pins: 1 RH "High End of Resistor", 2 UC (in) "Up Control Input", 3 STR (in) "Storage Enable Input", 4 RL "Low End of Resistor", 5 GND (power) "Ground", 6 RW "Wiper Terminal", 7 DC (in) "Down Control Input", 8 VCC (power) "Supply Voltage"

## DS1809-010+
designator U?
Dallastat with Contact-Closure Control Interface, Non-Volatile, Linear Taper, 64 Steps, -40 to 85 degC, 8-pin PDIP (P8+1), Pb-Free; PartNumber: DS1809-010+; DatasheetVersion: Rev. 1; PackageVersion: Rev. E, 04/2011; PackageReference: P8+1; PackageDescription: 8-Pin Plastic Dual-In-Line, Narrow (0.3in) (P8+1), Body 9.375 x 6.985 mm, Pitch 2.54 mm; Supplier 1: Digi-Key; Supplier Part Number 1: DS1809-010+-ND; Supplier 2: Mouser; Supplier Part Number 2: 700-DS1809-010; Control Interface: Contact-Closure; Features: EEPROM Wiper Memory; Mounting Technology: Through Hole; Code_JEDEC: MS001-XX; ComponentLink1Description: Manufacturer URL; ComponentLink1URL: http://www.maximintegrated.com/; ComponentLink2Description: Datasheet; ComponentLink2URL: http://datasheets.maximintegrated.com/en/ds/DS1809.pdf; ComponentLink3Description: Package Specification; ComponentLink3URL: http://pdfserv.maximintegrated.com/package_dwgs/21-0043.PDF
footprint MAXM-P8+1 (DIP, 8-Leads, Body 9.375x6.985mm, Pitch 2.54mm)
pins: 1 RH "High End of Resistor", 2 UC (in) "Up Control Input", 3 STR (in) "Storage Enable Input", 4 RL "Low End of Resistor", 5 GND (power) "Ground", 6 RW "Wiper Terminal", 7 DC (in) "Down Control Input", 8 VCC (power) "Supply Voltage"

## DS1809-050
designator U?
Dallastat with Contact-Closure Control Interface, Non-Volatile, Linear Taper, 64 Steps, -40 to 85 degC, 8-pin PDIP (P8-1); PartNumber: DS1809-050; DatasheetVersion: Rev. 1; PackageVersion: Rev. E, 04/2011; PackageReference: P8-1; PackageDescription: 8-Pin Plastic Dual-In-Line, Narrow (0.3in) (P8-1), Body 9.375 x 6.985 mm, Pitch 2.54 mm; Supplier 1: Digi-Key; Supplier Part Number 1: DS1809-050-ND; Supplier 2: Mouser; Supplier Part Number 2: N/A; Control Interface: Contact-Closure; Features: EEPROM Wiper Memory; Mounting Technology: Through Hole; Code_JEDEC: MS001-XX; ComponentLink1Description: Manufacturer URL; ComponentLink1URL: http://www.maximintegrated.com/; ComponentLink2Description: Datasheet; ComponentLink2URL: http://datasheets.maximintegrated.com/en/ds/DS1809.pdf; ComponentLink3Description: Package Specification; ComponentLink3URL: http://pdfserv.maximintegrated.com/package_dwgs/21-0043.PDF
footprint MAXM-P8-1 (DIP, 8-Leads, Body 9.375x6.985mm, Pitch 2.54mm)
pins: 1 RH "High End of Resistor", 2 UC (in) "Up Control Input", 3 STR (in) "Storage Enable Input", 4 RL "Low End of Resistor", 5 GND (power) "Ground", 6 RW "Wiper Terminal", 7 DC (in) "Down Control Input", 8 VCC (power) "Supply Voltage"

## DS1809-050+
designator U?
Dallastat with Contact-Closure Control Interface, Non-Volatile, Linear Taper, 64 Steps, -40 to 85 degC, 8-pin PDIP (P8+1), Pb-Free; PartNumber: DS1809-050+; DatasheetVersion: Rev. 1; PackageVersion: Rev. E, 04/2011; PackageReference: P8+1; PackageDescription: 8-Pin Plastic Dual-In-Line, Narrow (0.3in) (P8+1), Body 9.375 x 6.985 mm, Pitch 2.54 mm; Supplier 1: Digi-Key; Supplier Part Number 1: DS1809-050+-ND; Supplier 2: Mouser; Supplier Part Number 2: 700-DS1809-050; Control Interface: Contact-Closure; Features: EEPROM Wiper Memory; Mounting Technology: Through Hole; Code_JEDEC: MS001-XX; ComponentLink1Description: Manufacturer URL; ComponentLink1URL: http://www.maximintegrated.com/; ComponentLink2Description: Datasheet; ComponentLink2URL: http://datasheets.maximintegrated.com/en/ds/DS1809.pdf; ComponentLink3Description: Package Specification; ComponentLink3URL: http://pdfserv.maximintegrated.com/package_dwgs/21-0043.PDF
footprint MAXM-P8+1 (DIP, 8-Leads, Body 9.375x6.985mm, Pitch 2.54mm)
pins: 1 RH "High End of Resistor", 2 UC (in) "Up Control Input", 3 STR (in) "Storage Enable Input", 4 RL "Low End of Resistor", 5 GND (power) "Ground", 6 RW "Wiper Terminal", 7 DC (in) "Down Control Input", 8 VCC (power) "Supply Voltage"

## DS1809-100
designator U?
Dallastat with Contact-Closure Control Interface, Non-Volatile, Linear Taper, 64 Steps, -40 to 85 degC, 8-pin PDIP (P8-1); PartNumber: DS1809-100; DatasheetVersion: Rev. 1; PackageVersion: Rev. E, 04/2011; PackageReference: P8-1; PackageDescription: 8-Pin Plastic Dual-In-Line, Narrow (0.3in) (P8-1), Body 9.375 x 6.985 mm, Pitch 2.54 mm; Supplier 1: Digi-Key; Supplier Part Number 1: DS1809-100-ND; Supplier 2: Mouser; Supplier Part Number 2: N/A; Control Interface: Contact-Closure; Features: EEPROM Wiper Memory; Mounting Technology: Through Hole; Code_JEDEC: MS001-XX; ComponentLink1Description: Manufacturer URL; ComponentLink1URL: http://www.maximintegrated.com/; ComponentLink2Description: Datasheet; ComponentLink2URL: http://datasheets.maximintegrated.com/en/ds/DS1809.pdf; ComponentLink3Description: Package Specification; ComponentLink3URL: http://pdfserv.maximintegrated.com/package_dwgs/21-0043.PDF
footprint MAXM-P8-1 (DIP, 8-Leads, Body 9.375x6.985mm, Pitch 2.54mm)
pins: 1 RH "High End of Resistor", 2 UC (in) "Up Control Input", 3 STR (in) "Storage Enable Input", 4 RL "Low End of Resistor", 5 GND (power) "Ground", 6 RW "Wiper Terminal", 7 DC (in) "Down Control Input", 8 VCC (power) "Supply Voltage"

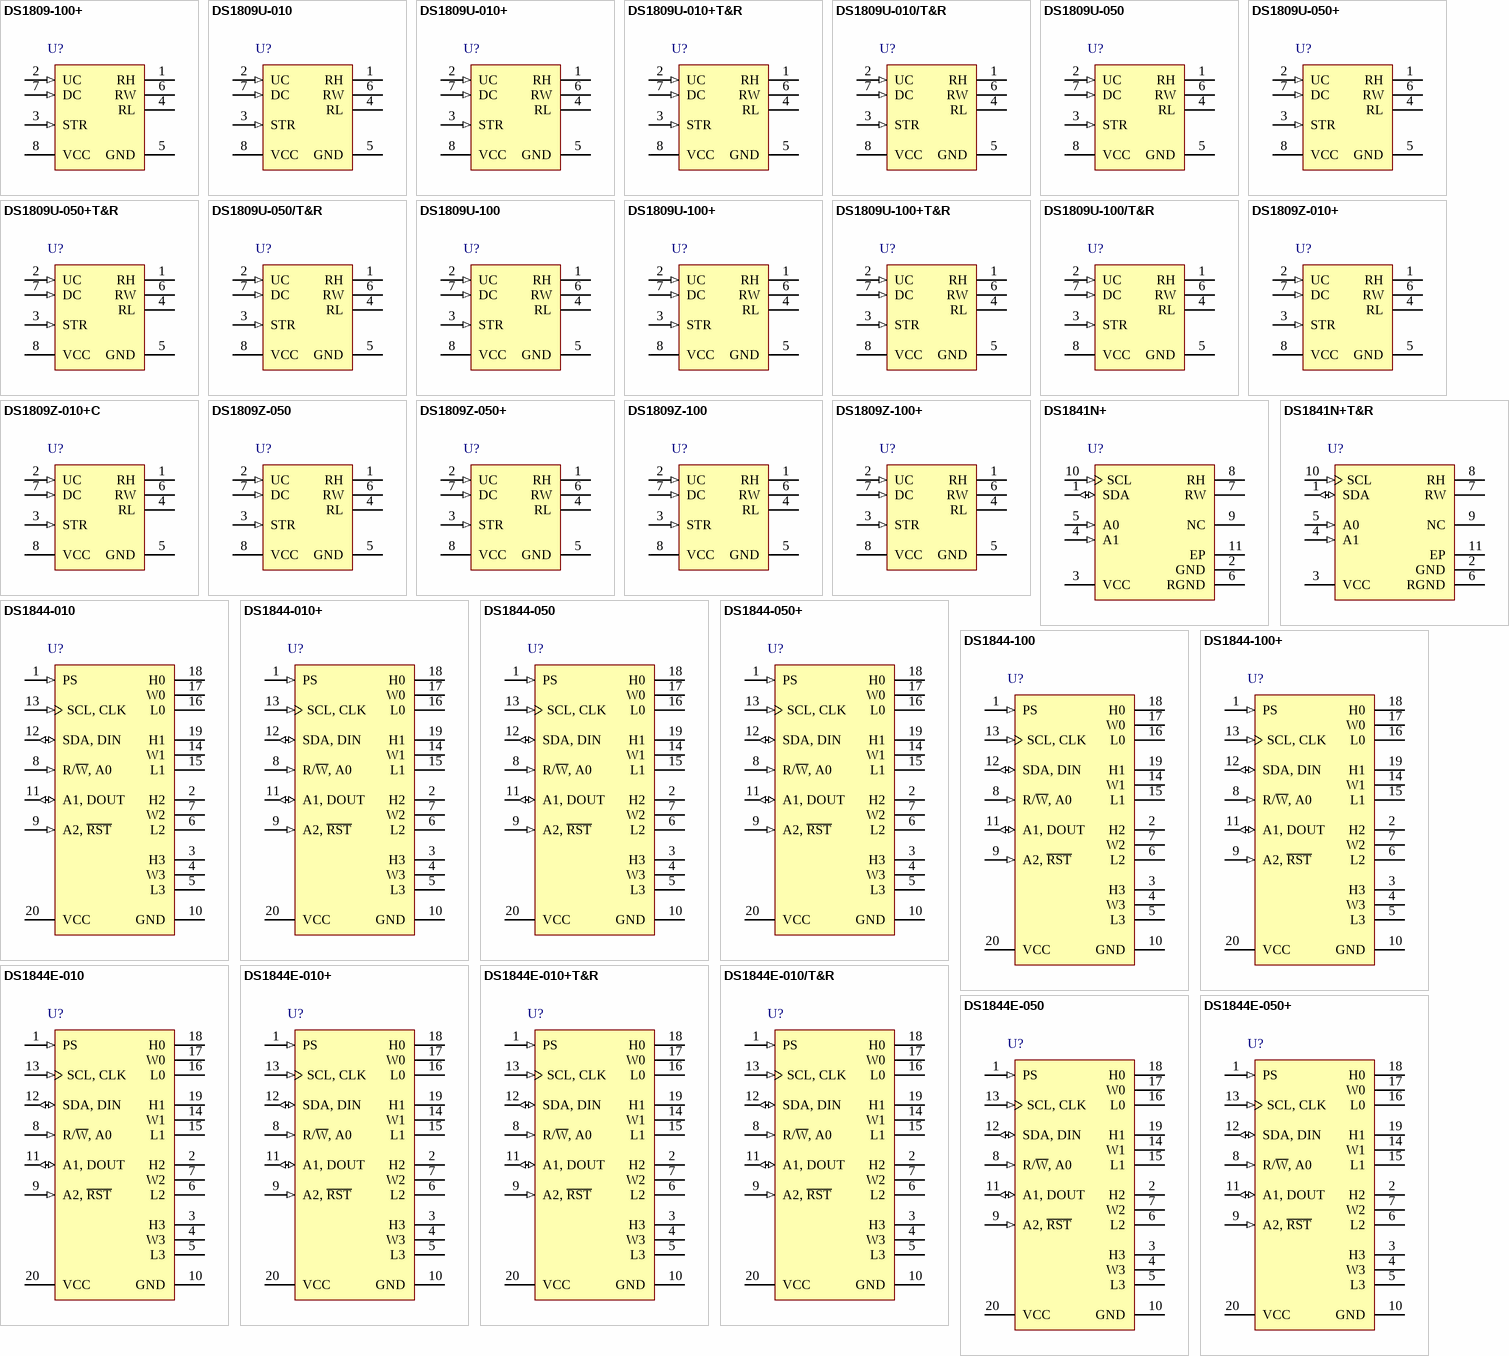
[diagram p5: symbols DS1809-100+ to DS1844E-050+]

## DS1809-100+
designator U?
Dallastat with Contact-Closure Control Interface, Non-Volatile, Linear Taper, 64 Steps, -40 to 85 degC, 8-pin PDIP (P8+1), Pb-Free; PartNumber: DS1809-100+; DatasheetVersion: Rev. 1; PackageVersion: Rev. E, 04/2011; PackageReference: P8+1; PackageDescription: 8-Pin Plastic Dual-In-Line, Narrow (0.3in) (P8+1), Body 9.375 x 6.985 mm, Pitch 2.54 mm; Supplier 1: Digi-Key; Supplier Part Number 1: DS1809-100+-ND; Supplier 2: Mouser; Supplier Part Number 2: 700-DS1809-100; Control Interface: Contact-Closure; Features: EEPROM Wiper Memory; Mounting Technology: Through Hole; Code_JEDEC: MS001-XX; ComponentLink1Description: Manufacturer URL; ComponentLink1URL: http://www.maximintegrated.com/; ComponentLink2Description: Datasheet; ComponentLink2URL: http://datasheets.maximintegrated.com/en/ds/DS1809.pdf; ComponentLink3Description: Package Specification; ComponentLink3URL: http://pdfserv.maximintegrated.com/package_dwgs/21-0043.PDF
footprint MAXM-P8+1 (DIP, 8-Leads, Body 9.375x6.985mm, Pitch 2.54mm)
pins: 1 RH "High End of Resistor", 2 UC (in) "Up Control Input", 3 STR (in) "Storage Enable Input", 4 RL "Low End of Resistor", 5 GND (power) "Ground", 6 RW "Wiper Terminal", 7 DC (in) "Down Control Input", 8 VCC (power) "Supply Voltage"

## DS1809U-010
designator U?
Dallastat with Contact-Closure Control Interface, Non-Volatile, Linear Taper, 64 Steps, -40 to 85 degC, 8-pin uMAX (U8-1); PartNumber: DS1809U-010; DatasheetVersion: Rev. 1; PackageVersion: Rev. L, 08/2009; PackageReference: U8-1; PackageDescription: 8-Pin Micro-MAX, Thin Shrink Small-Outline (U8-1), Body 3 x 3 mm, Pitch 0.65mm; Supplier 1: Digi-Key; Supplier Part Number 1: DS1809U-010-ND; Supplier 2: Mouser; Supplier Part Number 2: N/A; Control Interface: Contact-Closure; Features: EEPROM Wiper Memory; Mounting Technology: Surface Mount; Code_JEDEC: MO-187; ComponentLink1Description: Manufacturer URL; ComponentLink1URL: http://www.maximintegrated.com/; ComponentLink2Description: Datasheet; ComponentLink2URL: http://datasheets.maximintegrated.com/en/ds/DS1809.pdf; ComponentLink3Description: Package Specification; ComponentLink3URL: http://pdfserv.maximintegrated.com/package_dwgs/21-0036.PDF
footprint MAXM-U8-1_N (SOP, 8-Leads, Body 3x3mm, Pitch 0.65mm, IPC Medium Density)
footprint MAXM-U8-1_L (SOP, 8-Leads, Body 3x3mm, Pitch 0.65mm, IPC High Density)
footprint MAXM-U8-1_M (SOP, 8-Leads, Body 3x3mm, Pitch 0.65mm, IPC Low Density)
pins: 1 RH "High End of Resistor", 2 UC (in) "Up Control Input", 3 STR (in) "Storage Enable Input", 4 RL "Low End of Resistor", 5 GND (power) "Ground", 6 RW "Wiper Terminal", 7 DC (in) "Down Control Input", 8 VCC (power) "Supply Voltage"

## DS1809U-010+
designator U?
Dallastat with Contact-Closure Control Interface, Non-Volatile, Linear Taper, 64 Steps, -40 to 85 degC, 8-pin uMAX (U8+1), Pb-Free; PartNumber: DS1809U-010+; DatasheetVersion: Rev. 1; PackageVersion: Rev. L, 08/2009; PackageReference: U8+1; PackageDescription: 8-Pin Micro-MAX, Thin Shrink Small-Outline (U8+1), Body 3 x 3 mm, Pitch 0.65 mm; Supplier 1: Digi-Key; Supplier Part Number 1: DS1809U-010+-ND; Supplier 2: Mouser; Supplier Part Number 2: 700-DS1809U-010; Control Interface: Contact-Closure; Features: EEPROM Wiper Memory; Mounting Technology: Surface Mount; Code_JEDEC: MO-187; ComponentLink1Description: Manufacturer URL; ComponentLink1URL: http://www.maximintegrated.com/; ComponentLink2Description: Datasheet; ComponentLink2URL: http://datasheets.maximintegrated.com/en/ds/DS1809.pdf; ComponentLink3Description: Package Specification; ComponentLink3URL: http://pdfserv.maximintegrated.com/package_dwgs/21-0036.PDF
footprint MAXM-U8+1_N (SOP, 8-Leads, Body 3x3mm, Pitch 0.65mm, IPC Medium Density)
footprint MAXM-U8+1_L (SOP, 8-Leads, Body 3x3mm, Pitch 0.65mm, IPC High Density)
footprint MAXM-U8+1_M (SOP, 8-Leads, Body 3x3mm, Pitch 0.65mm, IPC Low Density)
pins: 1 RH "High End of Resistor", 2 UC (in) "Up Control Input", 3 STR (in) "Storage Enable Input", 4 RL "Low End of Resistor", 5 GND (power) "Ground", 6 RW "Wiper Terminal", 7 DC (in) "Down Control Input", 8 VCC (power) "Supply Voltage"

## DS1809U-010+T&R
designator U?
Dallastat with Contact-Closure Control Interface, Non-Volatile, Linear Taper, 64 Steps, -40 to 85 degC, 8-pin uMAX (U8+1), Pb-Free, Tape and Reel; PartNumber: DS1809U-010+T&R; DatasheetVersion: Rev. 1; PackageVersion: Rev. L, 08/2009; PackageReference: U8+1; PackageDescription: 8-Pin Micro-MAX, Thin Shrink Small-Outline (U8+1), Body 3 x 3 mm, Pitch 0.65 mm; Supplier 1: Digi-Key; Supplier Part Number 1: DS1809U-010+T&R-ND; Supplier 2: Mouser; Supplier Part Number 2: 700-DS1809U-010T&R; Control Interface: Contact-Closure; Features: EEPROM Wiper Memory; Mounting Technology: Surface Mount; Code_JEDEC: MO-187; ComponentLink1Description: Manufacturer URL; ComponentLink1URL: http://www.maximintegrated.com/; ComponentLink2Description: Datasheet; ComponentLink2URL: http://datasheets.maximintegrated.com/en/ds/DS1809.pdf; ComponentLink3Description: Package Specification; ComponentLink3URL: http://pdfserv.maximintegrated.com/package_dwgs/21-0036.PDF
footprint MAXM-U8+1_N (SOP, 8-Leads, Body 3x3mm, Pitch 0.65mm, IPC Medium Density)
footprint MAXM-U8+1_L (SOP, 8-Leads, Body 3x3mm, Pitch 0.65mm, IPC High Density)
footprint MAXM-U8+1_M (SOP, 8-Leads, Body 3x3mm, Pitch 0.65mm, IPC Low Density)
pins: 1 RH "High End of Resistor", 2 UC (in) "Up Control Input", 3 STR (in) "Storage Enable Input", 4 RL "Low End of Resistor", 5 GND (power) "Ground", 6 RW "Wiper Terminal", 7 DC (in) "Down Control Input", 8 VCC (power) "Supply Voltage"

## DS1809U-010/T&R
designator U?
Dallastat with Contact-Closure Control Interface, Non-Volatile, Linear Taper, 64 Steps, -40 to 85 degC, 8-pin uMAX (U8-1), Tape and Reel; PartNumber: DS1809U-010/T&R; DatasheetVersion: Rev. 1; PackageVersion: Rev. L, 08/2009; PackageReference: U8-1; PackageDescription: 8-Pin Micro-MAX, Thin Shrink Small-Outline (U8-1), Body 3 x 3 mm, Pitch 0.65mm; Supplier 1: Mouser; Supplier Part Number 1: N/A; Control Interface: Contact-Closure; Features: EEPROM Wiper Memory; Mounting Technology: Surface Mount; Code_JEDEC: MO-187; ComponentLink1Description: Manufacturer URL; ComponentLink1URL: http://www.maximintegrated.com/; ComponentLink2Description: Datasheet; ComponentLink2URL: http://datasheets.maximintegrated.com/en/ds/DS1809.pdf; ComponentLink3Description: Package Specification; ComponentLink3URL: http://pdfserv.maximintegrated.com/package_dwgs/21-0036.PDF
footprint MAXM-U8-1_N (SOP, 8-Leads, Body 3x3mm, Pitch 0.65mm, IPC Medium Density)
footprint MAXM-U8-1_L (SOP, 8-Leads, Body 3x3mm, Pitch 0.65mm, IPC High Density)
footprint MAXM-U8-1_M (SOP, 8-Leads, Body 3x3mm, Pitch 0.65mm, IPC Low Density)
pins: 1 RH "High End of Resistor", 2 UC (in) "Up Control Input", 3 STR (in) "Storage Enable Input", 4 RL "Low End of Resistor", 5 GND (power) "Ground", 6 RW "Wiper Terminal", 7 DC (in) "Down Control Input", 8 VCC (power) "Supply Voltage"

## DS1809U-050
designator U?
Dallastat with Contact-Closure Control Interface, Non-Volatile, Linear Taper, 64 Steps, -40 to 85 degC, 8-pin uMAX (U8-1); PartNumber: DS1809U-050; DatasheetVersion: Rev. 1; PackageVersion: Rev. L, 08/2009; PackageReference: U8-1; PackageDescription: 8-Pin Micro-MAX, Thin Shrink Small-Outline (U8-1), Body 3 x 3 mm, Pitch 0.65mm; Supplier 1: Digi-Key; Supplier Part Number 1: DS1809U-050-ND; Supplier 2: Mouser; Supplier Part Number 2: N/A; Control Interface: Contact-Closure; Features: EEPROM Wiper Memory; Mounting Technology: Surface Mount; Code_JEDEC: MO-187; ComponentLink1Description: Manufacturer URL; ComponentLink1URL: http://www.maximintegrated.com/; ComponentLink2Description: Datasheet; ComponentLink2URL: http://datasheets.maximintegrated.com/en/ds/DS1809.pdf; ComponentLink3Description: Package Specification; ComponentLink3URL: http://pdfserv.maximintegrated.com/package_dwgs/21-0036.PDF
footprint MAXM-U8-1_N (SOP, 8-Leads, Body 3x3mm, Pitch 0.65mm, IPC Medium Density)
footprint MAXM-U8-1_L (SOP, 8-Leads, Body 3x3mm, Pitch 0.65mm, IPC High Density)
footprint MAXM-U8-1_M (SOP, 8-Leads, Body 3x3mm, Pitch 0.65mm, IPC Low Density)
pins: 1 RH "High End of Resistor", 2 UC (in) "Up Control Input", 3 STR (in) "Storage Enable Input", 4 RL "Low End of Resistor", 5 GND (power) "Ground", 6 RW "Wiper Terminal", 7 DC (in) "Down Control Input", 8 VCC (power) "Supply Voltage"

## DS1809U-050+
designator U?
Dallastat with Contact-Closure Control Interface, Non-Volatile, Linear Taper, 64 Steps, -40 to 85 degC, 8-pin uMAX (U8+1), Pb-Free; PartNumber: DS1809U-050+; DatasheetVersion: Rev. 1; PackageVersion: Rev. L, 08/2009; PackageReference: U8+1; PackageDescription: 8-Pin Micro-MAX, Thin Shrink Small-Outline (U8+1), Body 3 x 3 mm, Pitch 0.65 mm; Supplier 1: Digi-Key; Supplier Part Number 1: DS1809U-050+-ND; Supplier 2: Mouser; Supplier Part Number 2: 700-DS1809U-050; Control Interface: Contact-Closure; Features: EEPROM Wiper Memory; Mounting Technology: Surface Mount; Code_JEDEC: MO-187; ComponentLink1Description: Manufacturer URL; ComponentLink1URL: http://www.maximintegrated.com/; ComponentLink2Description: Datasheet; ComponentLink2URL: http://datasheets.maximintegrated.com/en/ds/DS1809.pdf; ComponentLink3Description: Package Specification; ComponentLink3URL: http://pdfserv.maximintegrated.com/package_dwgs/21-0036.PDF
footprint MAXM-U8+1_N (SOP, 8-Leads, Body 3x3mm, Pitch 0.65mm, IPC Medium Density)
footprint MAXM-U8+1_L (SOP, 8-Leads, Body 3x3mm, Pitch 0.65mm, IPC High Density)
footprint MAXM-U8+1_M (SOP, 8-Leads, Body 3x3mm, Pitch 0.65mm, IPC Low Density)
pins: 1 RH "High End of Resistor", 2 UC (in) "Up Control Input", 3 STR (in) "Storage Enable Input", 4 RL "Low End of Resistor", 5 GND (power) "Ground", 6 RW "Wiper Terminal", 7 DC (in) "Down Control Input", 8 VCC (power) "Supply Voltage"

## DS1809U-050+T&R
designator U?
Dallastat with Contact-Closure Control Interface, Non-Volatile, Linear Taper, 64 Steps, -40 to 85 degC, 8-pin uMAX (U8+1), Pb-Free, Tape and Reel; PartNumber: DS1809U-050+T&R; DatasheetVersion: Rev. 1; PackageVersion: Rev. L, 08/2009; PackageReference: U8+1; PackageDescription: 8-Pin Micro-MAX, Thin Shrink Small-Outline (U8+1), Body 3 x 3 mm, Pitch 0.65 mm; Supplier 1: Digi-Key; Supplier Part Number 1: DS1809U-050+T&R-ND; Supplier 2: Mouser; Supplier Part Number 2: 700-DS1809U-050T&R; Control Interface: Contact-Closure; Features: EEPROM Wiper Memory; Mounting Technology: Surface Mount; Code_JEDEC: MO-187; ComponentLink1Description: Manufacturer URL; ComponentLink1URL: http://www.maximintegrated.com/; ComponentLink2Description: Datasheet; ComponentLink2URL: http://datasheets.maximintegrated.com/en/ds/DS1809.pdf; ComponentLink3Description: Package Specification; ComponentLink3URL: http://pdfserv.maximintegrated.com/package_dwgs/21-0036.PDF
footprint MAXM-U8+1_N (SOP, 8-Leads, Body 3x3mm, Pitch 0.65mm, IPC Medium Density)
footprint MAXM-U8+1_L (SOP, 8-Leads, Body 3x3mm, Pitch 0.65mm, IPC High Density)
footprint MAXM-U8+1_M (SOP, 8-Leads, Body 3x3mm, Pitch 0.65mm, IPC Low Density)
pins: 1 RH "High End of Resistor", 2 UC (in) "Up Control Input", 3 STR (in) "Storage Enable Input", 4 RL "Low End of Resistor", 5 GND (power) "Ground", 6 RW "Wiper Terminal", 7 DC (in) "Down Control Input", 8 VCC (power) "Supply Voltage"

## DS1809U-050/T&R
designator U?
Dallastat with Contact-Closure Control Interface, Non-Volatile, Linear Taper, 64 Steps, -40 to 85 degC, 8-pin uMAX (U8-1), Tape and Reel; PartNumber: DS1809U-050/T&R; DatasheetVersion: Rev. 1; PackageVersion: Rev. L, 08/2009; PackageReference: U8-1; PackageDescription: 8-Pin Micro-MAX, Thin Shrink Small-Outline (U8-1), Body 3 x 3 mm, Pitch 0.65mm; Supplier 1: Mouser; Supplier Part Number 1: N/A; Control Interface: Contact-Closure; Features: EEPROM Wiper Memory; Mounting Technology: Surface Mount; Code_JEDEC: MO-187; ComponentLink1Description: Manufacturer URL; ComponentLink1URL: http://www.maximintegrated.com/; ComponentLink2Description: Datasheet; ComponentLink2URL: http://datasheets.maximintegrated.com/en/ds/DS1809.pdf; ComponentLink3Description: Package Specification; ComponentLink3URL: http://pdfserv.maximintegrated.com/package_dwgs/21-0036.PDF
footprint MAXM-U8-1_N (SOP, 8-Leads, Body 3x3mm, Pitch 0.65mm, IPC Medium Density)
footprint MAXM-U8-1_L (SOP, 8-Leads, Body 3x3mm, Pitch 0.65mm, IPC High Density)
footprint MAXM-U8-1_M (SOP, 8-Leads, Body 3x3mm, Pitch 0.65mm, IPC Low Density)
pins: 1 RH "High End of Resistor", 2 UC (in) "Up Control Input", 3 STR (in) "Storage Enable Input", 4 RL "Low End of Resistor", 5 GND (power) "Ground", 6 RW "Wiper Terminal", 7 DC (in) "Down Control Input", 8 VCC (power) "Supply Voltage"